# Altium integrated library Data Acquisition - Digital to Analog Converters (DAC).IntLib: 2 symbols
Pins are listed as number, name and electrical type; pins without a type are passive.

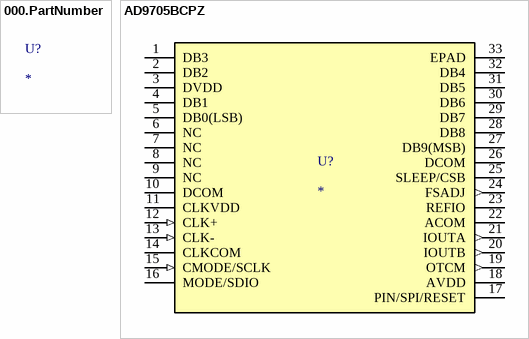
[diagram p0: symbols 000.PartNumber to AD9705BCPZ]

## 000.PartNumber
designator U?
Digikey Description; Manufacturer: *; Series: *; Package: *; Number of Bits: *; Number of D/A Converters: *; Settling Time: *; Output Type: *; Differential Output: *; Data Interface: *; Reference Type: *; Voltage - Supply, Analog: *; Voltage - Supply, Digital: *; INL/DNL (LSB): *; Architecture: *; Operating Temperature: *; Package / Case: *; Supplier Device Package: *; Mounting Type: *; Base Product Number: *; Ozdisan Link: *; Digikey Link: *; Farnell TR Link: *; Mouser Link: *

## AD9705BCPZ
designator U?
IC DAC 10BIT A-OUT 32LFCSP; Manufacturer: Analog Devices Inc.; Number of Bits: 10; Number of D/A Converters: 1; Settling Time: 11ns (Typ); Output Type: Current - Unbuffered; Differential Output: Yes; Data Interface: Parallel; Reference Type: External, Internal; Voltage - Supply, Analog: 1.8V, 3.3V; INL/DNL (LSB): ±0.1, ±0.09; Architecture: Current Source; Base Product Number: AD9705; Series: TxDAC®; Package: Tray; Voltage - Supply, Digital: 1.8V, 3.3V; Operating Temperature: -40°C ~ 85°C; Package / Case: 32-VFQFN Exposed Pad, CSP; Supplier Device Package: 32-LFCSP-VQ (5x5); Mounting Type: Surface Mount; Ozdisan Link: -; Digikey Link: https://www.digikey.com/en/products/detail/analog-devices-inc/AD9705BCPZ/1166679; Farnell TR Link: -; Mouser Link: https://www.mouser.com.tr/ProductDetail/Analog-Devices/AD9705BCPZ?qs=BpaRKvA4VqG%2FEkVJgiERvw%3D%3D
footprint ANALOG_32-LFCSP-VQ (5x5)
pins: 1 DB3, 2 DB2, 3 DVDD (power), 4 DB1, 5 DB0(LSB), 6 NC, 7 NC, 8 NC, 9 NC, 10 DCOM, 11 CLKVDD (power), 12 CLK+ (in), 13 CLK- (in), 14 CLKCOM, 15 CMODE/SCLK (in), 16 MODE/SDIO, 17 PIN/SPI/RESET, 18 AVDD (power), 19 OTCM (out), 20 IOUTB (out), 21 IOUTA (out), 22 ACOM, 23 REFIO, 24 FSADJ (out), 25 SLEEP/CSB, 26 DCOM, 27 DB9(MSB), 28 DB8, 29 DB7, 30 DB6, 31 DB5, 32 DB4, 33 EPAD